# Altium integrated library Ceramic Capacitors 0201 10V.IntLib: 1 symbol
Pins are listed as number, name and electrical type; pins without a type are passive.

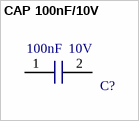
[diagram p0: symbol CAP 100nF/10V]

## CAP 100nF/10V
designator C?  Voltage: 10V  Capacitance: 100nF  (hidden comment: CAP 100nF/10V)
0.1µF ±10% 10V Ceramic Capacitor X5R 0201 (0603 Metric); Manufacturer 1: Yageo; Manufacturer 1 PN: CC0201KRX5R6BB104; Digikey PN: 311-1593-1-ND; Mouser PN: 603-CC201KRX5R6BB104; ComponentLink1Description: Datasheet; ComponentLink1URL: http://www.samsungsem.com/kr/support/library/product-catalog/__icsFiles/afieldfile/2018/11/28/MLCC.pdf
footprint CAP 100nF/10V (0.1µF ±10% 10V Ceramic Capacitor X5R 0201 (0603 Metric))
pins: 1, 2